# Altium footprint library Connectors.PcbLib: 11 footprints
Each footprint in its own frame and in the unit in brackets; x right, y up, seen from the top. Pads: shape width x height; smd on the part's side, far side on the other; paste and mask are expansions set on the pad; w line width, h text height; cw(c..) or ccw(c..) is an arc to the next point about the centre after c.
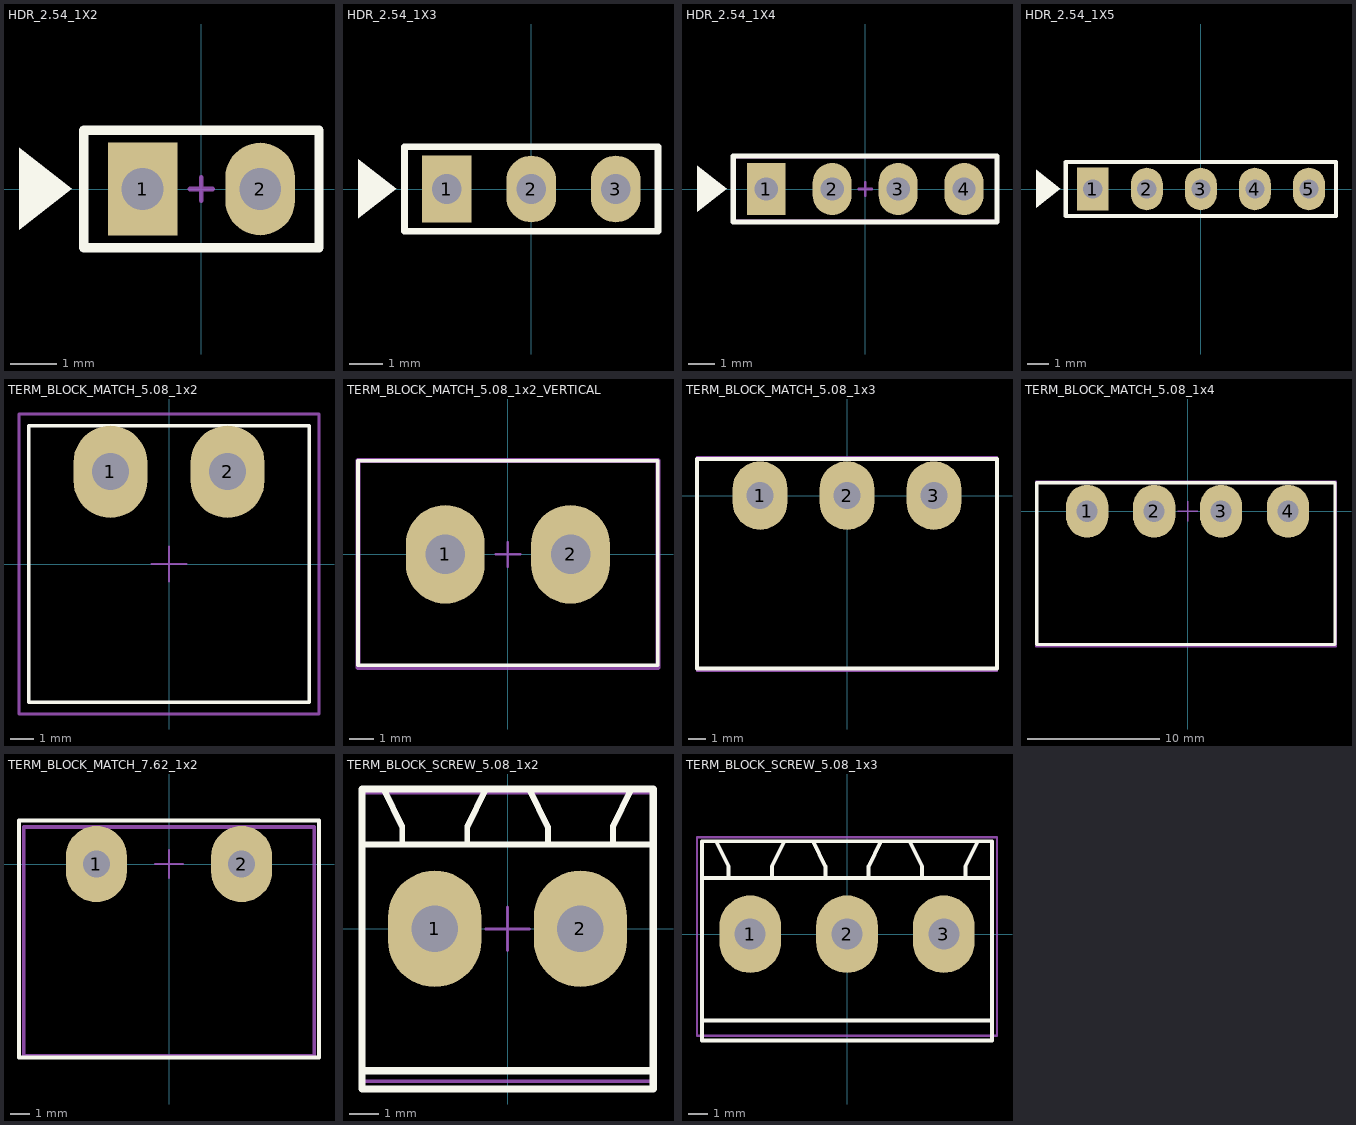
[diagram p0: the footprints below, top view; thin cyan lines are the x and y axes]

## HDR_2.54_1X2 [mm] "2.54MM PICTH"
pads (2):
  rect 1.5x2 hole 0.9: 1(-1.27,0)
  oval 1.5x2 hole 0.9: 2(1.27,0)
Top Overlay:
  region: -3.937,0.893 -3.937,-0.885 -2.794,0.004
  lines w0.2: -2.54,-1.27 -2.54,1.27 2.54,1.27 2.54,-1.27 -2.54,-1.27
Mechanical 15:
  lines w0.1: -0.25,0 0.25,0 ; 0,-0.25 0,0.25
  lines w0.127: -2.54,-1.245 2.54,-1.245 2.54,1.245 -2.54,1.245 -2.54,-1.245
Mechanical 27:
  lines w0.127: -2.54,-1.245 -2.54,1.245 2.54,1.245 2.54,-1.245 -2.54,-1.245
  text "'.Designator'" at -1.651,-0.889 h3
3D body "User Library-Header_Male_2Pin.STEP": height 8.54, standoff -3, extent -2.54,-1.245 2.54,1.245

## HDR_2.54_1X3 [mm] "2.54MM PICTH"
pads (3):
  rect 1.5x2 hole 0.9: 1(-2.54,0)
  oval 1.5x2 hole 0.9: 2(0,0) 3(2.54,0)
Top Overlay:
  region: -5.207,0.893 -5.207,-0.885 -4.064,0.004
  lines w0.2: -3.81,-1.27 -3.81,1.27 3.81,1.27 3.81,-1.27 -3.81,-1.27
Mechanical 15:
  lines w0.1: -0.25,0 0.25,0 ; 0,-0.25 0,0.25
  lines w0.127: -3.81,-1.245 -3.81,1.245 3.81,1.245 3.81,-1.245 -3.81,-1.245
Mechanical 27:
  lines w0.127: -3.81,-1.245 3.81,-1.245 3.81,1.245 -3.81,1.245 -3.81,-1.245
  text "'.Designator'" at -1.524,-0.889 h3
3D body "User Library-Header_Male_3Pin.STEP": height 8.54, standoff -3, extent -3.81,-1.245 3.81,1.245

## HDR_2.54_1X4 [mm] "2.54MM PICTH"
pads (4):
  rect 1.5x2 hole 0.9: 1(-3.81,0)
  oval 1.5x2 hole 0.9: 2(-1.27,0) 3(1.27,0) 4(3.81,0)
Top Overlay:
  region: -6.477,0.893 -6.477,-0.885 -5.334,0.004
  lines w0.2: -5.08,-1.27 -5.08,1.27 5.08,1.27 5.08,-1.27 -5.08,-1.27
Mechanical 15:
  lines w0.1: -0.25,0 0.25,0 ; 0,-0.25 0,0.25
  lines w0.127: -5.08,-1.245 -5.08,1.245 5.08,1.245 5.08,-1.245 -5.08,-1.245
Mechanical 27:
  lines w0.127: -5.08,-1.245 5.08,-1.245 5.08,1.245 -5.08,1.245 -5.08,-1.245
  text "'.Designator'" at -1.524,-0.889 h3
3D body "User Library-Header_Male_4Pin.STEP": height 8.54, standoff -3, extent -5.08,-1.245 5.08,1.245

## HDR_2.54_1X5 [mm] "2.54MM PICTH"
pads (5):
  rect 1.5x2 hole 0.9: 1(-5.08,0)
  oval 1.5x2 hole 0.9: 2(-2.54,0) 3(0,0) 4(2.54,0) 5(5.08,0)
Top Overlay:
  region: -7.747,0.893 -7.747,-0.885 -6.604,0.004
  lines w0.2: -6.35,-1.27 6.35,-1.27 6.35,1.27 -6.35,1.27 -6.35,-1.27
Mechanical 15:
  lines w0.1: -0.25,0 0.25,0 ; 0,-0.25 0,0.25
  lines w0.127: -6.35,-1.24 6.35,-1.24 6.35,1.25 -6.35,1.25 -6.35,-1.24
Mechanical 27:
  lines w0.127: -6.35,-1.24 -6.35,1.25 6.35,1.25 6.35,-1.24 -6.35,-1.24
  text "'.Designator'" at -1.524,-0.889 h3
3D body "User Library-Header_Male_5Pin.STEP": height 8.54, standoff -3, extent -6.35,-1.24 6.35,1.25

## TERM_BLOCK_MATCH_5.08_1x2 [mm]
pads (2):
  oval 3.2x4 hole 1.6: 1(-2.54,4) 2(2.54,4)
Top Overlay:
  lines w0.152: -6.08,-6 6.08,-6 6.08,6 -6.08,6 -6.08,-6
Mechanical 15:
  lines w0.1: -0.75,0 0.75,0 ; 0,-0.75 0,0.75
  lines w0.127: -6.5,-6.5 6.5,-6.5 6.5,6.5 -6.5,6.5 -6.5,-6.5
Mechanical 27:
  lines w0.127: -6.5,-6.5 -6.5,6.5 ; -6.5,-6.5 6.5,-6.5 ; -6.5,-6.5 6.5,-6.5 ; -6.5,-6.5 -6.5,6.5 ; -6.5,6.5 6.5,6.5 ; -6.5,6.5 6.5,6.5 ; 6.5,-6.5 6.5,6.5 ; 6.5,-6.5 6.5,6.5
  text "'.Designator'" at -3.15,1.4 h6
3D body "User Library-TB5_08-2R.STEP": height 8.53, standoff -4.12, extent -6.08,-6 6.08,6

## TERM_BLOCK_MATCH_5.08_1x2_VERTICAL [mm]
pads (2):
  oval 3.2x4 hole 1.6: 1(-2.54,0) 2(2.54,0)
Top Overlay:
  lines w0.152: -6.08,-4.5 6.08,-4.5 6.08,3.8 -6.08,3.8 -6.08,-4.5
Mechanical 15:
  lines w0.1: -0.5,0 0.5,0 ; 0,-0.5 0,0.5
  lines w0.2: -6.08,-4.582 6.087,-4.582 6.087,3.8 -6.08,3.8 -6.08,-4.582
Mechanical 27:
  lines w0.2: -6.08,-4.582 -6.08,3.8 6.087,3.8 6.087,-4.582 -6.08,-4.582
  text "'.Designator'" at -3,-1.5 h6
3D body "395311002.stp": height 11.94, standoff -3.3, extent -6.08,-4.582 6.087,3.8

## TERM_BLOCK_MATCH_5.08_1x3 [mm]
pads (3):
  oval 3.2x4 hole 1.6: 1(-5.08,0) 2(0,0) 3(5.08,0)
Top Overlay:
  lines w0.254: -8.763,-10.109 8.763,-10.109 8.763,2.134 -8.763,2.134 -8.763,-10.109
Mechanical 15:
  lines w0.1: -0.75,0 0.75,0 ; 0,-0.75 0,0.75
  lines w0.127: -8.75,-10.25 8.75,-10.25 8.75,2.25 -8.75,2.25 -8.75,-10.25
Mechanical 27:
  lines w0.127: -8.75,-10.25 -8.75,2.25 8.75,2.25 8.75,-10.25 -8.75,-10.25
  text "'.Designator'" at -3,-5.25 h6
3D body "User Library-TB5_08-3R.STEP": height 8.53, standoff -4.12, extent -8.628,-9.992 8.612,2.008

## TERM_BLOCK_MATCH_5.08_1x4 [mm]
pads (4):
  oval 3.2x4 hole 1.6: 1(-7.62,0) 2(-2.54,0) 3(2.54,0) 4(7.62,0)
Top Overlay:
  lines w0.254: -11.43,-10.109 -11.43,2.159 11.176,2.159 11.176,-10.109 -11.43,-10.109
Mechanical 15:
  lines w0.1: -0.75,0 0.75,0 ; 0,-0.75 0,0.75
  lines w0.127: -11.5,-10.25 -11.5,2.25 11.25,2.25 11.25,-10.25 -11.5,-10.25
Mechanical 27:
  lines w0.127: -11.5,-10.25 11.25,-10.25 11.25,2.25 -11.5,2.25 -11.5,-10.25
  text "'.Designator'" at -3,-6.5 h6
3D body "User Library-TB5_08-4R.STEP": height 8.55, standoff -4.1, extent -11.287,-9.968 11.033,2.032

## TERM_BLOCK_MATCH_7.62_1x2 [mm]
pads (2):
  oval 3.2x4 hole 1.4: 1(-3.81,0) 2(3.81,0)
Top Overlay:
  lines w0.2: -7.874,-10.16 -7.874,2.286 7.874,2.286 7.874,-10.16 -7.874,-10.16
Mechanical 15:
  lines w0.1: -0.75,0 0.75,0 ; 0,-0.75 0,0.75
  lines w0.2: -7.62,-10.064 7.62,-10.064 7.62,1.936 -7.62,1.936 -7.62,-10.064
Mechanical 27:
  lines w0.2: -7.62,-10.064 -7.62,1.936 7.62,1.936 7.62,-10.064 -7.62,-10.064
  text "'.Designator'" at -3,-5.25 h6
3D body "691313410002.stp": height 8.45, standoff -4.05, extent -7.62,-10.064 7.62,1.936

## TERM_BLOCK_SCREW_5.08_1x2 [mm]
pads (2):
  oval 3.2x4 hole 1.6: 1(-2.5,0) 2(2.5,0)
Top Overlay:
  lines w0.203: -5,2.9 5,2.9 ; -4.25,4.8 -3.615,3.5 -3.615,2.9 -1.385,2.9 -1.385,3.5 -0.75,4.8 ; 0.75,4.8 1.385,3.5 1.385,2.9 3.615,2.9 3.615,3.5 4.25,4.8
  lines w0.254: -5,-4.875 5,-4.875 ; -5,-5.5 5,-5.5 5,4.8 -5,4.8 -5,-5.5
Mechanical 15:
  lines w0.1: -0.75,0 0.75,0 ; 0,-0.75 0,0.75
  lines w0.127: -4.979,-5.236 5.029,-5.236 5.029,4.67 -4.979,4.67 -4.979,-5.236
Mechanical 27:
  lines w0.127: -4.979,-5.236 -4.979,4.67 5.029,4.67 5.029,-5.236 -4.979,-5.236
  text "'.Designator'" at -3,-1.5 h6
3D body "395433002.stp": height 14.5, standoff -3.02, extent -4.979,-5.236 5.029,4.67

## TERM_BLOCK_SCREW_5.08_1x3 [mm]
pads (3):
  oval 3.2x4 hole 1.6: 1(-5,0) 2(0,0) 3(5,0)
Top Overlay:
  lines w0.203: -7.5,-4.45 7.5,-4.45 ; -7.5,2.9 7.5,2.9 ; -6.75,4.8 -6.115,3.5 -6.115,2.9 -3.885,2.9 -3.885,3.5 -3.25,4.8 ; -1.75,4.8 -1.115,3.5 -1.115,2.9 1.115,2.9 1.115,3.5 1.75,4.8 ; 3.25,4.8 3.885,3.5 3.885,2.9 6.115,2.9 6.115,3.5 6.75,4.8 ; -7.5,-5.5 7.5,-5.5 7.5,4.8 -7.5,4.8 -7.5,-5.5
Mechanical 15:
  lines w0.1: -0.75,0 0.75,0 ; 0,-0.75 0,0.75
  lines w0.127: -7.75,-5.25 -7.75,5 7.75,5 7.75,-5.25 -7.75,-5.25
Mechanical 27:
  lines w0.127: -7.75,-5.25 7.75,-5.25 7.75,5 -7.75,5 -7.75,-5.25
  text "'.Designator'" at -3,-1.5 h6
3D body "395433003.stp": height 14.5, standoff -3.02, extent -7.481,-5.081 7.531,4.825